# EAGLE library part TPS768* (library NewSDR)
Texas Instruments 3.3V 1A Low Dropout Voltage Regulator
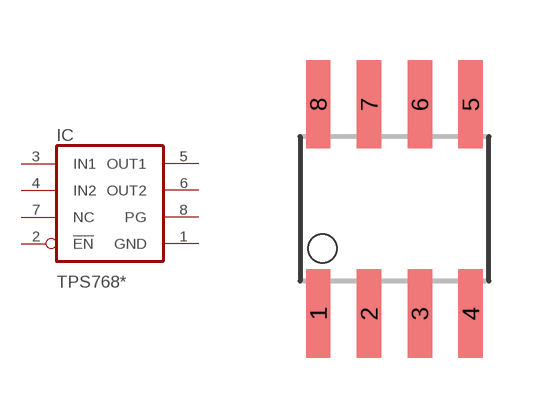
[diagram p57: symbol with the pads of SO8; footprint SO8]

Designator prefix IC

## TPS76818Q, TPS76833Q  [SO8]
1  GND  pwr
2  !EN  in
3  IN1  pwr
4  IN2  pwr
5  OUT1  pwr
6  OUT2  pwr
7  NC  nc
8  PG  pas

## Footprint SO8 (pad centres in mm)
smd 0.61 x 2.21: 1 -1.905,-2.616; 2 -0.635,-2.616; 3 0.635,-2.616; 4 1.905,-2.616; 5 1.905,2.616; 6 0.635,2.616; 7 -0.635,2.616; 8 -1.905,2.616